# Altium footprint library JST_B6B.PcbLib: 1 footprints
Each footprint in its own frame and in the unit in brackets; x right, y up, seen from the top. Pads: shape width x height; smd on the part's side, far side on the other; paste and mask are expansions set on the pad; w line width, h text height; cw(c..) or ccw(c..) is an arc to the next point about the centre after c.
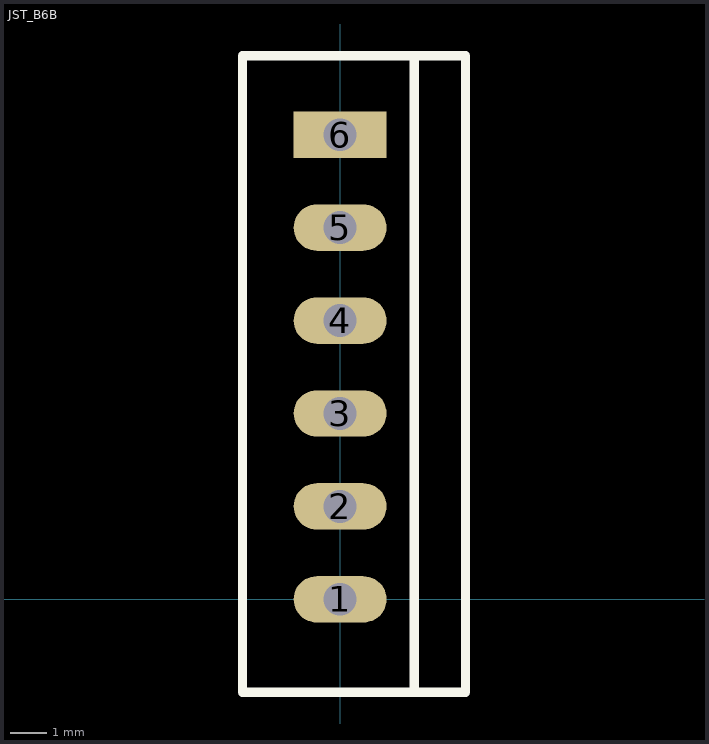
[diagram p0: the footprint, top view; thin cyan lines are the x and y axes]

## JST_B6B [mm]
pads (6):
  rrect100% 2.54x1.27 hole 0.9: 1(0,0) 2(0,2.54) 3(0,5.08) 4(0,7.62) 5(0,10.16)
  rect 2.54x1.27 hole 0.9: 6(0,12.7)
Top Overlay:
  lines w0.254: 2.032,-2.54 2.032,14.859 ; -2.667,-2.54 -2.667,14.859 3.429,14.859 3.429,-2.54 -2.667,-2.54
3D body "JST - XH - Thru - 6Pin - 2.5mm (Genuine).stp": height 7.21, standoff -3, extent -2.54,-2.413 3.302,14.761